# Altium footprint library DiodesAndTransistors.PcbLib: 9 footprints
Each footprint in its own frame and in the unit in brackets; x right, y up, seen from the top. Pads: shape width x height; smd on the part's side, far side on the other; paste and mask are expansions set on the pad; w line width, h text height; cw(c..) or ccw(c..) is an arc to the next point about the centre after c.
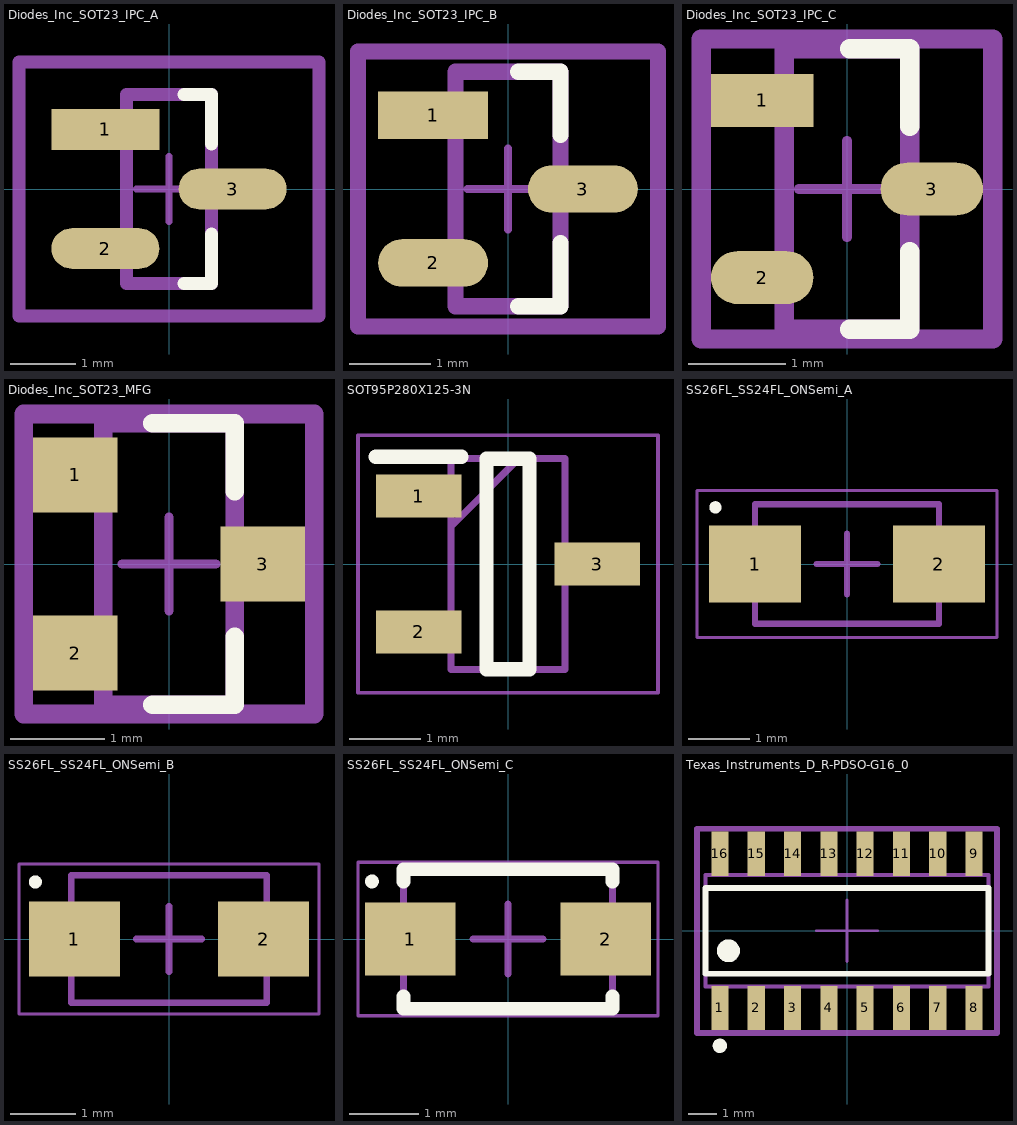
[diagram p0: the footprints below, top view; thin cyan lines are the x and y axes]

## Diodes_Inc_SOT23_IPC_A [mm]
pads (3):
  rect 1.659x0.627 smd paste+0 mask+0: 1(-0.977,0.915)
  rrect100% 1.659x0.627 smd paste+0 mask+0: 2(-0.977,-0.915) 3(0.977,0)
Top Overlay:
  lines w0.2: 0.228,-1.45 0.65,-1.45 0.65,-0.688 ; 0.228,1.45 0.65,1.45 0.65,0.688
Mechanical 10:
  lines w0.2: -2.306,-1.95 -2.306,1.95 2.306,1.95 2.306,-1.95 -2.306,-1.95
  text ".Designator" at 0,-0.001 h1
Mechanical 12:
  lines w0.2: -0.65,-1.45 -0.65,1.45 0.65,1.45 0.65,-1.45 -0.65,-1.45
Mechanical 15:
  lines w0.1: -0.5,0 0.5,0 ; 0,-0.5 0,0.5
  lines w0.2: -2.306,-1.95 -2.306,1.95 2.306,1.95 2.306,-1.95 -2.306,-1.95
3D body "Trans_Diodes_Inc_DMP3099L-13_eec.STEP": height 0.25, standoff 0, extent -2.306,-1.95 2.306,1.95

## Diodes_Inc_SOT23_IPC_B [mm]
pads (3):
  rect 1.359x0.587 smd paste+0 mask+0: 1(-0.927,0.915)
  rrect100% 1.359x0.587 smd paste+0 mask+0: 2(-0.927,-0.915) 3(0.927,0)
Top Overlay:
  lines w0.2: 0.128,-1.45 0.65,-1.45 0.65,-0.668 ; 0.128,1.45 0.65,1.45 0.65,0.668
Mechanical 10:
  lines w0.2: -1.856,-1.7 1.856,-1.7 1.856,1.7 -1.856,1.7 -1.856,-1.7
  text ".Designator" at 0,-0.001 h1
Mechanical 12:
  lines w0.2: -0.65,-1.45 0.65,-1.45 0.65,1.45 -0.65,1.45 -0.65,-1.45
Mechanical 15:
  lines w0.1: -0.5,0 0.5,0 ; 0,-0.5 0,0.5
  lines w0.2: -1.856,-1.7 1.856,-1.7 1.856,1.7 -1.856,1.7 -1.856,-1.7
3D body "Trans_Diodes_Inc_DMP3099L-13_eec.STEP": height 0.25, standoff 0, extent -1.856,-1.7 1.856,1.7

## Diodes_Inc_SOT23_IPC_C [mm]
pads (3):
  rect 1.059x0.547 smd paste+0 mask+0: 1(-0.877,0.915)
  rrect100% 1.059x0.547 smd paste+0 mask+0: 2(-0.877,-0.915) 3(0.877,0)
Top Overlay:
  lines w0.2: 0.028,-1.45 0.65,-1.45 0.65,-0.648 ; 0.028,1.45 0.65,1.45 0.65,0.648
Mechanical 10:
  lines w0.2: -1.506,-1.55 1.506,-1.55 1.506,1.55 -1.506,1.55 -1.506,-1.55
  text ".Designator" at 0,-0.001 h1
Mechanical 12:
  lines w0.2: -0.65,-1.45 0.65,-1.45 0.65,1.45 -0.65,1.45 -0.65,-1.45
Mechanical 15:
  lines w0.1: -0.5,0 0.5,0 ; 0,-0.5 0,0.5
  lines w0.2: -1.506,-1.55 1.506,-1.55 1.506,1.55 -1.506,1.55 -1.506,-1.55
3D body "Trans_Diodes_Inc_DMP3099L-13_eec.STEP": height 0.25, standoff 0, extent -1.506,-1.55 1.506,1.55

## Diodes_Inc_SOT23_MFG [mm]
pads (3):
  rect 0.9x0.8 smd paste+0 mask+0: 1(-1,0.95) 2(-1,-0.95) 3(1,0)
Top Overlay:
  lines w0.2: -0.175,-1.5 0.7,-1.5 0.7,-0.775 ; -0.175,1.5 0.7,1.5 0.7,0.775
Mechanical 10:
  lines w0.2: -1.55,-1.6 1.55,-1.6 1.55,1.6 -1.55,1.6 -1.55,-1.6
  text ".Designator" at 0,-0.001 h1
Mechanical 12:
  lines w0.2: -0.7,-1.5 0.7,-1.5 0.7,1.5 -0.7,1.5 -0.7,-1.5
Mechanical 15:
  lines w0.1: -0.5,0 0.5,0 ; 0,-0.5 0,0.5
  lines w0.2: -1.55,-1.6 1.55,-1.6 1.55,1.6 -1.55,1.6 -1.55,-1.6
3D body "Trans_Diodes_Inc_DMP3099L-13_eec.STEP": height 0.25, standoff 0, extent -1.55,-1.6 1.55,1.6

## SOT95P280X125-3N [mm]
pads (3):
  rect 1.2x0.6 smd: 1(-1.25,0.95) 2(-1.25,-0.95) 3(1.25,0)
Top Overlay:
  lines w0.2: -1.85,1.5 -0.65,1.5 ; -0.3,-1.475 -0.3,1.475 0.3,1.475 0.3,-1.475 -0.3,-1.475
Mechanical 15:
  lines w0.1: -0.8,0.525 0.15,1.475 ; -0.8,-1.475 -0.8,1.475 0.8,1.475 0.8,-1.475 -0.8,-1.475
Mechanical 20:
  lines w0.05: -2.1,-1.8 -2.1,1.8 2.1,1.8 2.1,-1.8 -2.1,-1.8
3D body "AO3404A.stp": height 1.25, standoff 0, extent -1.4,-1.475 1.4,1.475

## SS26FL_SS24FL_ONSemi_A [mm] "SODFL, 2-Leads, Body 1.73x3.60mm, IPC Low Density"
height 1.08
pads (2):
  rect 1.5x1.25 smd: 1(-1.5,0) 2(1.5,0)
Top Overlay:
  circle w0.1: c-2.15,0.925 r0.05
Mechanical 13:
  lines w0.1: -1.5,-0.975 1.5,-0.975 1.5,0.975 -1.5,0.975 -1.5,-0.975
Mechanical 15:
  lines w0.05: -2.45,-1.2 2.45,-1.2 2.45,1.2 -2.45,1.2 -2.45,-1.2
  lines w0.1: -0.5,0 0.5,0 ; 0,-0.5 0,0.5
3D body "SS26FL_SS24FL_ONSemi.step": height 1.08, standoff 0, extent -1.8,-0.975 1.8,0.975

## SS26FL_SS24FL_ONSemi_B [mm] "SODFL, 2-Leads, Body 1.73x3.60mm, IPC Medium Density"
height 1.08
pads (2):
  rect 1.4x1.15 smd: 1(-1.45,0) 2(1.45,0)
Top Overlay:
  circle w0.1: c-2.05,0.875 r0.05
Mechanical 13:
  lines w0.1: -1.5,-0.975 1.5,-0.975 1.5,0.975 -1.5,0.975 -1.5,-0.975
Mechanical 15:
  lines w0.05: -2.3,-1.15 2.3,-1.15 2.3,1.15 -2.3,1.15 -2.3,-1.15
  lines w0.1: -0.5,0 0.5,0 ; 0,-0.5 0,0.5
3D body "SS26FL_SS24FL_ONSemi_B.step": height 1.08, standoff 0, extent -1.8,-0.975 1.8,0.975

## SS26FL_SS24FL_ONSemi_C [mm] "SODFL, 2-Leads, Body 1.73x3.60mm, IPC High Density"
height 1.08
pads (2):
  rect 1.3x1.05 smd: 1(-1.4,0) 2(1.4,0)
Top Overlay:
  circle w0.1: c-1.95,0.825 r0.05
  lines w0.2: -1.5,-0.825 -1.5,-1 1.5,-1 1.5,-0.825 ; -1.5,0.825 -1.5,1 1.5,1 1.5,0.825
Mechanical 13:
  lines w0.1: -1.5,-0.975 1.5,-0.975 1.5,0.975 -1.5,0.975 -1.5,-0.975
Mechanical 15:
  lines w0.05: -2.15,-1.1 2.15,-1.1 2.15,1.1 -2.15,1.1 -2.15,-1.1
  lines w0.1: -0.5,0 0.5,0 ; 0,-0.5 0,0.5
3D body "SS26FL_SS24FL_ONSemi_C.step": height 1.08, standoff 0, extent -1.8,-0.975 1.8,0.975

## Texas_Instruments_D_R-PDSO-G16_0 [mm]
pads (16):
  rect 0.6x1.55 smd paste-1000 mask+0: 1(-4.445,-2.7) 2(-3.175,-2.7) 3(-1.905,-2.7) 4(-0.635,-2.7) 5(0.635,-2.7) 6(1.905,-2.7) 7(3.175,-2.7) 8(4.445,-2.7) 9(4.445,2.7) 10(3.175,2.7) 11(1.905,2.7) 12(0.635,2.7) 13(-0.635,2.7) 14(-1.905,2.7) 15(-3.175,2.7) 16(-4.445,2.7)
Top Overlay:
  circle w0.4: c-4.15,-0.7 r0.2
  circle w0.25: c-4.45,-4.025 r0.125
  lines w0.2: -4.95,-1.5 -4.95,1.5 4.95,1.5 4.95,-1.5 -4.95,-1.5
Top Paste:
  rectangle: -4.72,-3.45 -4.17,-1.95
  rectangle: -3.45,-3.45 -2.9,-1.95
  rectangle: -2.18,-3.45 -1.63,-1.95
  rectangle: -0.91,-3.45 -0.36,-1.95
  rectangle: 0.36,-3.45 0.91,-1.95
  rectangle: 1.63,-3.45 2.18,-1.95
  rectangle: 2.9,-3.45 3.45,-1.95
  rectangle: 4.17,-3.45 4.72,-1.95
  rectangle: -4.72,1.95 -4.17,3.45
  rectangle: -3.45,1.95 -2.9,3.45
  rectangle: -2.18,1.95 -1.63,3.45
  rectangle: -0.91,1.95 -0.36,3.45
  rectangle: 0.36,1.95 0.91,3.45
  rectangle: 1.63,1.95 2.18,3.45
  rectangle: 2.9,1.95 3.45,3.45
  rectangle: 4.17,1.95 4.72,3.45
Mechanical 10:
  lines w0.2: -5.25,-3.575 -5.25,3.575 5.25,3.575 5.25,-3.575 -5.25,-3.575
  text ".Designator" at 0,0 h1
Mechanical 12:
  lines w0.15: -4.95,-1.95 -4.95,1.95 4.95,1.95 4.95,-1.95 -4.95,-1.95
Mechanical 15:
  lines w0.1: -1.072,0 1.072,0 ; 0,-1.072 0,1.072
  lines w0.2: -5.25,-3.575 -5.25,3.575 5.25,3.575 5.25,-3.575 -5.25,-3.575
3D body "3dmodel.step": height 0.25, standoff 0, extent -5.25,-3.575 5.25,3.575